# EAGLE library part DS3231MZ/V+T (library maximparts)
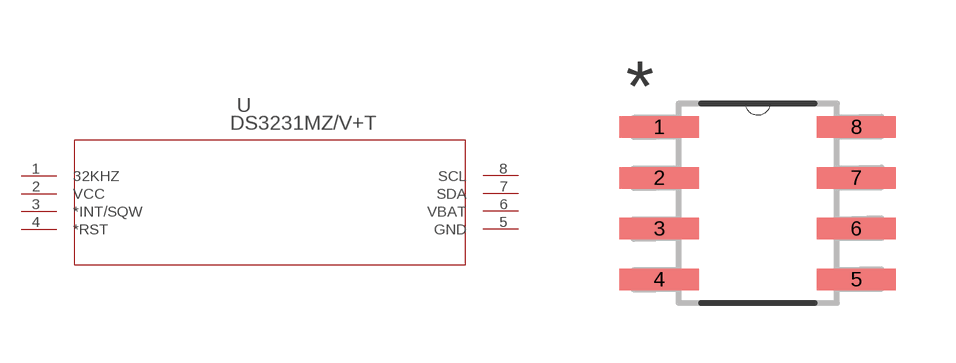
[diagram p0: symbol with the pads of 21-0041B_8; footprint 21-0041B_8]

Designator prefix U

## DS3231MZ/V+T (MANUFACTURER_NAME: Maxim; MANUFACTURER_PART_NUMBER: DS3231MZ/V+T; VENDOR: Maxim)  [21-0041B_8]
1  32KHZ  pas
2  VCC  pwr
3  *INT/SQW  pas
4  *RST  pas
5  GND  pwr
6  VBAT  pwr
7  SDA  pas
8  SCL  pas

## Footprint 21-0041B_8 (pad centres in mm)
smd 1.981 x 0.533: 1 -2.464,1.905; 2 -2.464,0.635; 3 -2.464,-0.635; 4 -2.464,-1.905; 5 2.464,-1.905; 6 2.464,-0.635; 7 2.464,0.635; 8 2.464,1.905